# EAGLE library part XMOS-LINK-MALE (library sjg-xmos)
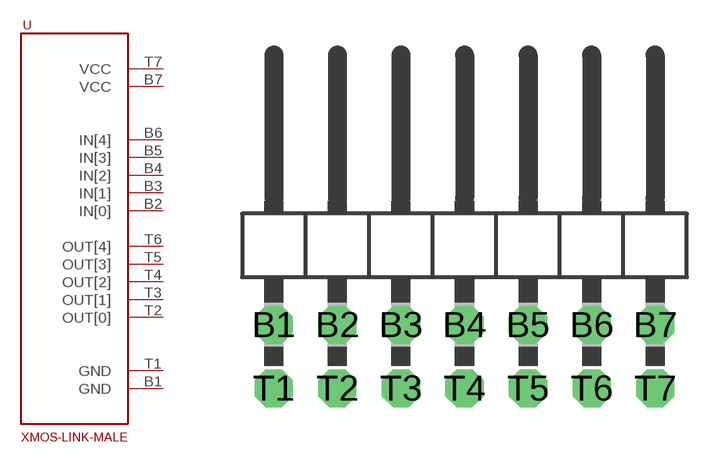
[diagram p2: symbol with the pads of 2X07/90; footprint 2X07/90]

Designator prefix -

## XMOS-LINK-MALE  [2X07/90]
B1  GND
B2  IN[0]
B3  IN[1]
B4  IN[2]
B5  IN[3]
B6  IN[4]
B7  VCC
T1  GND
T2  OUT[0]
T3  OUT[1]
T4  OUT[2]
T5  OUT[3]
T6  OUT[4]
T7  VCC

## Footprint 2X07/90 (pad centres in mm)
PIN HEADER
drill 1.016 octagon: B1 -7.62,-3.81; B2 -5.08,-3.81; B3 -2.54,-3.81; B4 0,-3.81; B5 2.54,-3.81; B6 5.08,-3.81; B7 7.62,-3.81; T1 -7.62,-6.35; T2 -5.08,-6.35; T3 -2.54,-6.35; T4 0,-6.35; T5 2.54,-6.35; T6 5.08,-6.35; T7 7.62,-6.35